# EAGLE library part PENTODE-813 (library 1A-meinLib)
Pentode, indirekt geheizt
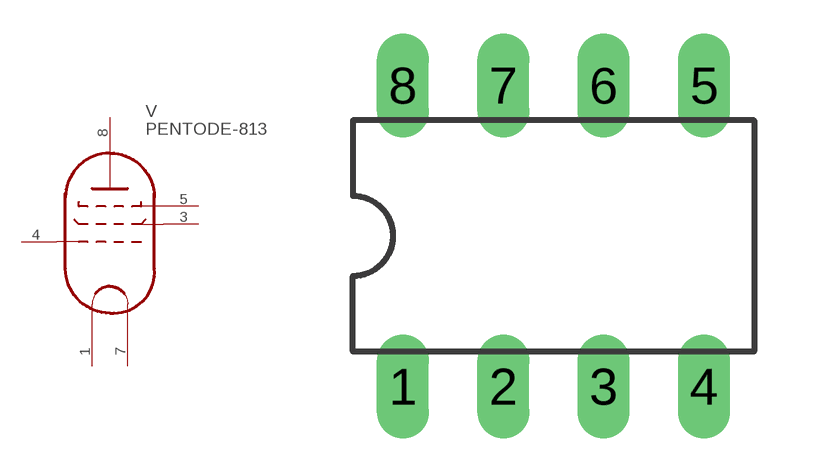
[diagram p93: symbol with the pads of DIL08; footprint DIL08]

Designator prefix V

## PENTODE-813  [DIL08]
1  F1
3  G2
4  G1
5  G3
7  F2
8  A

## Footprint DIL08 (pad centres in mm)
Dual In Line Package
drill 0.813 long: 1 -3.81,-3.81; 2 -1.27,-3.81; 3 1.27,-3.81; 4 3.81,-3.81; 5 3.81,3.81; 6 1.27,3.81; 7 -1.27,3.81; 8 -3.81,3.81